# Altium integrated library Texas Instruments Interface Equalizer and Redriver.IntLib: 53 symbols (part 1 of 4)
Pins are listed as number, name and electrical type; pins without a type are passive.

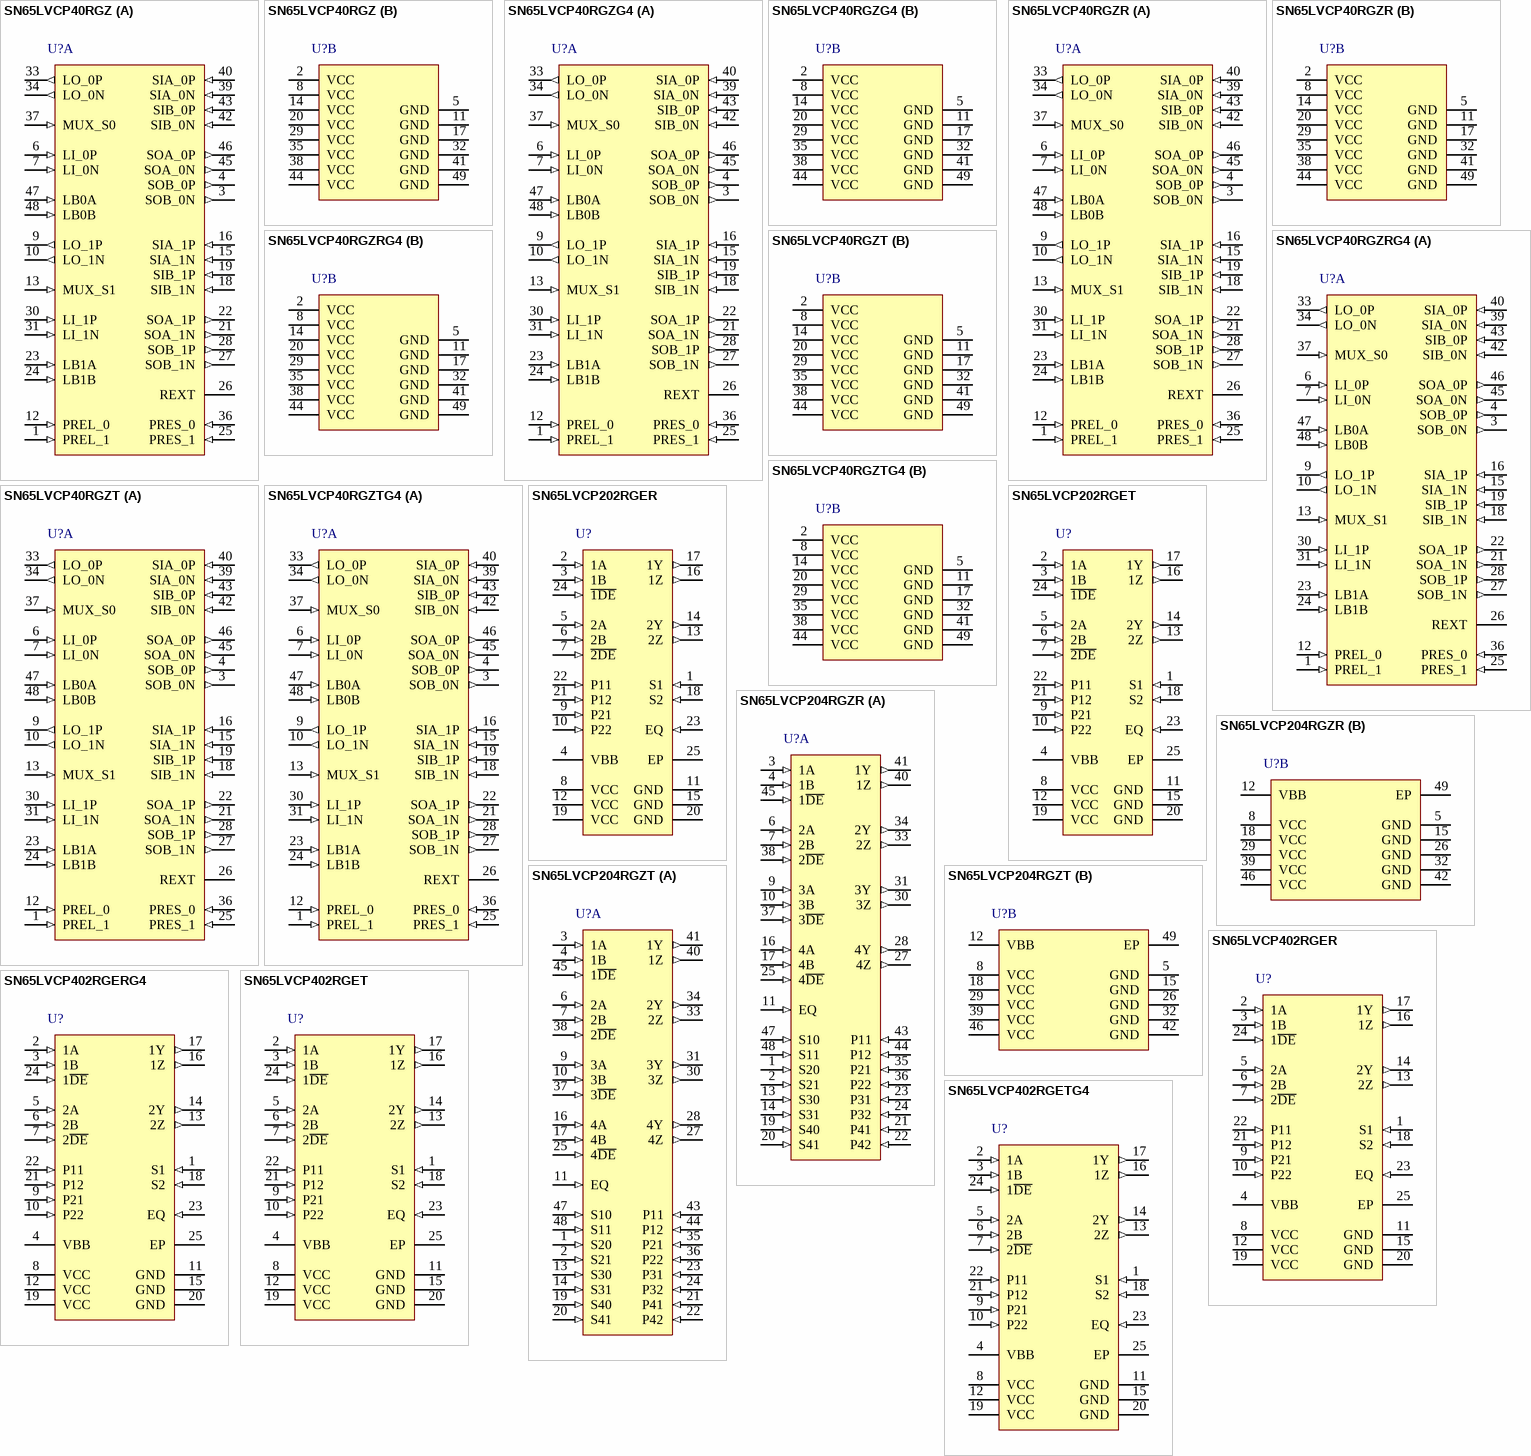
[diagram p0: symbols SN65LVCP40RGZ to SN65LVCP402RGETG4]

## SN65LVCP40RGZ
designator U?
DC to 4 Gbps Dual 1:2 Multiplexer / Repeater / Equalizer, -40 to 85 degC, 48-Pin VQFN (RGZ), Green (RoHS & no Sb/Br); PartNumber: SN65LVCP40RGZ; Manufacturer: Texas Instruments; ICC(Max)(mA): 300; IN SigCon: EQ; OUT SigCon: Pre-E; ESD HBM(kV): 2; Function: SerDes; DatasheetVersion: SLLS623D; PackageVersion: revF, Jun-2011; PackageReference: RGZ48-4100X4100TP; PackageDescription: 48-Pin Plastic Quad Flatpack No-Lead, 7 x 7 mm Body, 0.5 mm Pitch; Mounting Technology: Surface Mount; Eco-Plan: Green (RoHS & no Sb/Br); Code_JEDEC: MO-220; ComponentLink1Description: Datasheet; ComponentLink1URL: http://www.ti.com/general/docs/lit/getliterature.tsp?genericPartNumber=SN65LVCP40&fileType=pdf; ComponentLink2Description: Package Specification; ComponentLink2URL: http://www.ti.com/lit/ml/mpqf123e/mpqf123e.pdf
footprint RGZ48-4100X4100TP (QFN, 48-Leads, Body 7x7mm, Pitch 0.5mm, Thermal Pad 5.15x5.15mm, TI Recommended)
part A pins: 1 PREL_1 (in) "Output preemphasis control, line side port_0 and port_1. Has internal pull-up. See Preemphasis Controls PREL_0, PREL_1, PRES_0 and PRES for function definition.", 3 SOB_0N (out) "Differential output, mux_0 switch_B_side", 4 SOB_0P (out) "Differential output, mux_0 switch_B_side", 6 LI_0P (in) "Differential input, port_0 line side", 7 LI_0N (in) "Differential input, port_0 line side", 9 LO_1P (out) "Differential output, port_1 line side", 10 LO_1N (out) "Differential output, port_1 line side", 12 PREL_0 (in) "Output preemphasis control, line side port_0 and port_1. Has internal pull-up. See Preemphasis Controls PREL_0, PREL_1, PRES_0 and PRES for function definition.", 13 MUX_S1 (in) "Port A and B multiplex control of mux_0 and mux_1. See Multiplex Controls MUX_S0 and MUX_S1 for function definition.", 15 SIA_1N (in) "Differential input, mux_1 switch_A_side", 16 SIA_1P (in) "Differential input, mux_1 switch_A_side", 18 SIB_1N (in) "Differential input, mux_1 switch_B_side", 19 SIB_1P (in) "Differential input, mux_1 switch_B_side", 21 SOA_1N (out) "Differential output, mux_1 switch_A_side", 22 SOA_1P (out) "Differential output, mux_1 switch_A_side", 23 LB1A (in) "Loopback control for mux_1 switch side. See Loopback Controls LB0A, LB0B, LB1A and LB1B for function definition.", 24 LB1B (in) "Loopback control for mux_1 switch side. See Loopback Controls LB0A, LB0B, LB1A and LB1B for function definition.", 25 PRES_1 (in) "Output preemphasis control, switch side port_0 and port_1. See Preemphasis Controls PREL_0, PREL_1, PRES_0 and PRES for function definition.", 26 REXT "No connect. This pin is unused and can be left open or tied to GND with any resistor.", 27 SOB_1N (out) "Differential output, mux_1 switch_B_side", 28 SOB_1P (out) "Differential output, mux_1 switch_B_side", 30 LI_1P (in) "Differential input, port_1 line side", 31 LI_1N (in) "Differential input, port_1 line side", 33 LO_0P (out) "Differential output, port_0 line side", 34 LO_0N (out) "Differential output, port_0 line side", 36 PRES_0 (in) "Output preemphasis control, switch side port_0 and port_1. See Preemphasis Controls PREL_0, PREL_1, PRES_0 and PRES for function definition.", 37 MUX_S0 (in) "Port A and B multiplex control of mux_0 and mux_1. See Multiplex Controls MUX_S0 and MUX_S1 for function definition.", 39 SIA_0N (in) "Differential input, mux_0 switch_A_side", 40 SIA_0P (in) "Differential input, mux_0 switch_A_side", 42 SIB_0N (in) "Differential input, mux_0 switch_B_side", 43 SIB_0P (in) "Differential input, mux_0 switch_B_side", 45 SOA_0N (out) "Differential output, mux_0 switch_A_side", 46 SOA_0P (out) "Differential output, mux_0 switch_A_side", 47 LB0A (in) "Loopback control for mux_0 switch side. See Loopback Controls LB0A,LB0B, LB1A and LB1B for function definition.", 48 LB0B (in) "Loopback control for mux_0 switch side. See Loopback Controls LB0A,LB0B, LB1A and LB1B for function definition."
part B pins: 2 VCC (power) "Power supply 3.3 V +/-5%", 5 GND (power) "Power supply return", 8 VCC (power) "Power supply 3.3 V +/-5%", 11 GND (power) "Power supply return", 14 VCC (power) "Power supply 3.3 V +/-5%", 17 GND (power) "Power supply return", 20 VCC (power) "Power supply 3.3 V +/-5%", 29 VCC (power) "Power supply 3.3 V +/-5%", 32 GND (power) "Power supply return", 35 VCC (power) "Power supply 3.3 V +/-5%", 38 VCC (power) "Power supply 3.3 V +/-5%", 41 GND (power) "Power supply return", 44 VCC (power) "Power supply 3.3 V +/-5%", 49 GND (power) "The ground center pad is the metal contact at the bottom of the 48-pin package. It must be connected to the GND plane. At least 4 vias are recommended to minimize inductance and provide a solid ground. See the package (See Datasheet)"

## SN65LVCP40RGZG4
designator U?
DC to 4 Gbps Dual 1:2 Multiplexer / Repeater / Equalizer, -40 to 85 degC, 48-Pin VQFN (RGZ), Green (RoHS & no Sb/Br); PartNumber: SN65LVCP40RGZG4; Manufacturer: Texas Instruments; ICC(Max)(mA): 300; IN SigCon: EQ; OUT SigCon: Pre-E; ESD HBM(kV): 2; Function: SerDes; DatasheetVersion: SLLS623D; PackageVersion: revF, Jun-2011; PackageReference: RGZ48-4100X4100TP; PackageDescription: 48-Pin Plastic Quad Flatpack No-Lead, 7 x 7 mm Body, 0.5 mm Pitch; Mounting Technology: Surface Mount; Eco-Plan: Green (RoHS & no Sb/Br); Code_JEDEC: MO-220; ComponentLink1Description: Datasheet; ComponentLink1URL: http://www.ti.com/general/docs/lit/getliterature.tsp?genericPartNumber=SN65LVCP40&fileType=pdf; ComponentLink2Description: Package Specification; ComponentLink2URL: http://www.ti.com/lit/ml/mpqf123e/mpqf123e.pdf
footprint RGZ48-4100X4100TP (QFN, 48-Leads, Body 7x7mm, Pitch 0.5mm, Thermal Pad 5.15x5.15mm, TI Recommended)
part A pins: 1 PREL_1 (in) "Output preemphasis control, line side port_0 and port_1. Has internal pull-up. See Preemphasis Controls PREL_0, PREL_1, PRES_0 and PRES for function definition.", 3 SOB_0N (out) "Differential output, mux_0 switch_B_side", 4 SOB_0P (out) "Differential output, mux_0 switch_B_side", 6 LI_0P (in) "Differential input, port_0 line side", 7 LI_0N (in) "Differential input, port_0 line side", 9 LO_1P (out) "Differential output, port_1 line side", 10 LO_1N (out) "Differential output, port_1 line side", 12 PREL_0 (in) "Output preemphasis control, line side port_0 and port_1. Has internal pull-up. See Preemphasis Controls PREL_0, PREL_1, PRES_0 and PRES for function definition.", 13 MUX_S1 (in) "Port A and B multiplex control of mux_0 and mux_1. See Multiplex Controls MUX_S0 and MUX_S1 for function definition.", 15 SIA_1N (in) "Differential input, mux_1 switch_A_side", 16 SIA_1P (in) "Differential input, mux_1 switch_A_side", 18 SIB_1N (in) "Differential input, mux_1 switch_B_side", 19 SIB_1P (in) "Differential input, mux_1 switch_B_side", 21 SOA_1N (out) "Differential output, mux_1 switch_A_side", 22 SOA_1P (out) "Differential output, mux_1 switch_A_side", 23 LB1A (in) "Loopback control for mux_1 switch side. See Loopback Controls LB0A, LB0B, LB1A and LB1B for function definition.", 24 LB1B (in) "Loopback control for mux_1 switch side. See Loopback Controls LB0A, LB0B, LB1A and LB1B for function definition.", 25 PRES_1 (in) "Output preemphasis control, switch side port_0 and port_1. See Preemphasis Controls PREL_0, PREL_1, PRES_0 and PRES for function definition.", 26 REXT "No connect. This pin is unused and can be left open or tied to GND with any resistor.", 27 SOB_1N (out) "Differential output, mux_1 switch_B_side", 28 SOB_1P (out) "Differential output, mux_1 switch_B_side", 30 LI_1P (in) "Differential input, port_1 line side", 31 LI_1N (in) "Differential input, port_1 line side", 33 LO_0P (out) "Differential output, port_0 line side", 34 LO_0N (out) "Differential output, port_0 line side", 36 PRES_0 (in) "Output preemphasis control, switch side port_0 and port_1. See Preemphasis Controls PREL_0, PREL_1, PRES_0 and PRES for function definition.", 37 MUX_S0 (in) "Port A and B multiplex control of mux_0 and mux_1. See Multiplex Controls MUX_S0 and MUX_S1 for function definition.", 39 SIA_0N (in) "Differential input, mux_0 switch_A_side", 40 SIA_0P (in) "Differential input, mux_0 switch_A_side", 42 SIB_0N (in) "Differential input, mux_0 switch_B_side", 43 SIB_0P (in) "Differential input, mux_0 switch_B_side", 45 SOA_0N (out) "Differential output, mux_0 switch_A_side", 46 SOA_0P (out) "Differential output, mux_0 switch_A_side", 47 LB0A (in) "Loopback control for mux_0 switch side. See Loopback Controls LB0A,LB0B, LB1A and LB1B for function definition.", 48 LB0B (in) "Loopback control for mux_0 switch side. See Loopback Controls LB0A,LB0B, LB1A and LB1B for function definition."
part B pins: 2 VCC (power) "Power supply 3.3 V +/-5%", 5 GND (power) "Power supply return", 8 VCC (power) "Power supply 3.3 V +/-5%", 11 GND (power) "Power supply return", 14 VCC (power) "Power supply 3.3 V +/-5%", 17 GND (power) "Power supply return", 20 VCC (power) "Power supply 3.3 V +/-5%", 29 VCC (power) "Power supply 3.3 V +/-5%", 32 GND (power) "Power supply return", 35 VCC (power) "Power supply 3.3 V +/-5%", 38 VCC (power) "Power supply 3.3 V +/-5%", 41 GND (power) "Power supply return", 44 VCC (power) "Power supply 3.3 V +/-5%", 49 GND (power) "The ground center pad is the metal contact at the bottom of the 48-pin package. It must be connected to the GND plane. At least 4 vias are recommended to minimize inductance and provide a solid ground. See the package (See Datasheet)"

## SN65LVCP40RGZR
designator U?
DC to 4 Gbps Dual 1:2 Multiplexer / Repeater / Equalizer, -40 to 85 degC, 48-Pin VQFN (RGZ), Green (RoHS & no Sb/Br); PartNumber: SN65LVCP40RGZR; Manufacturer: Texas Instruments; ICC(Max)(mA): 300; IN SigCon: EQ; OUT SigCon: Pre-E; ESD HBM(kV): 2; Function: SerDes; DatasheetVersion: SLLS623D; PackageVersion: revF, Jun-2011; PackageReference: RGZ48-4100X4100TP; PackageDescription: 48-Pin Plastic Quad Flatpack No-Lead, 7 x 7 mm Body, 0.5 mm Pitch; Mounting Technology: Surface Mount; Eco-Plan: Green (RoHS & no Sb/Br); Code_JEDEC: MO-220; ComponentLink1Description: Datasheet; ComponentLink1URL: http://www.ti.com/general/docs/lit/getliterature.tsp?genericPartNumber=SN65LVCP40&fileType=pdf; ComponentLink2Description: Package Specification; ComponentLink2URL: http://www.ti.com/lit/ml/mpqf123e/mpqf123e.pdf
footprint RGZ48-4100X4100TP (QFN, 48-Leads, Body 7x7mm, Pitch 0.5mm, Thermal Pad 5.15x5.15mm, TI Recommended)
part A pins: 1 PREL_1 (in) "Output preemphasis control, line side port_0 and port_1. Has internal pull-up. See Preemphasis Controls PREL_0, PREL_1, PRES_0 and PRES for function definition.", 3 SOB_0N (out) "Differential output, mux_0 switch_B_side", 4 SOB_0P (out) "Differential output, mux_0 switch_B_side", 6 LI_0P (in) "Differential input, port_0 line side", 7 LI_0N (in) "Differential input, port_0 line side", 9 LO_1P (out) "Differential output, port_1 line side", 10 LO_1N (out) "Differential output, port_1 line side", 12 PREL_0 (in) "Output preemphasis control, line side port_0 and port_1. Has internal pull-up. See Preemphasis Controls PREL_0, PREL_1, PRES_0 and PRES for function definition.", 13 MUX_S1 (in) "Port A and B multiplex control of mux_0 and mux_1. See Multiplex Controls MUX_S0 and MUX_S1 for function definition.", 15 SIA_1N (in) "Differential input, mux_1 switch_A_side", 16 SIA_1P (in) "Differential input, mux_1 switch_A_side", 18 SIB_1N (in) "Differential input, mux_1 switch_B_side", 19 SIB_1P (in) "Differential input, mux_1 switch_B_side", 21 SOA_1N (out) "Differential output, mux_1 switch_A_side", 22 SOA_1P (out) "Differential output, mux_1 switch_A_side", 23 LB1A (in) "Loopback control for mux_1 switch side. See Loopback Controls LB0A, LB0B, LB1A and LB1B for function definition.", 24 LB1B (in) "Loopback control for mux_1 switch side. See Loopback Controls LB0A, LB0B, LB1A and LB1B for function definition.", 25 PRES_1 (in) "Output preemphasis control, switch side port_0 and port_1. See Preemphasis Controls PREL_0, PREL_1, PRES_0 and PRES for function definition.", 26 REXT "No connect. This pin is unused and can be left open or tied to GND with any resistor.", 27 SOB_1N (out) "Differential output, mux_1 switch_B_side", 28 SOB_1P (out) "Differential output, mux_1 switch_B_side", 30 LI_1P (in) "Differential input, port_1 line side", 31 LI_1N (in) "Differential input, port_1 line side", 33 LO_0P (out) "Differential output, port_0 line side", 34 LO_0N (out) "Differential output, port_0 line side", 36 PRES_0 (in) "Output preemphasis control, switch side port_0 and port_1. See Preemphasis Controls PREL_0, PREL_1, PRES_0 and PRES for function definition.", 37 MUX_S0 (in) "Port A and B multiplex control of mux_0 and mux_1. See Multiplex Controls MUX_S0 and MUX_S1 for function definition.", 39 SIA_0N (in) "Differential input, mux_0 switch_A_side", 40 SIA_0P (in) "Differential input, mux_0 switch_A_side", 42 SIB_0N (in) "Differential input, mux_0 switch_B_side", 43 SIB_0P (in) "Differential input, mux_0 switch_B_side", 45 SOA_0N (out) "Differential output, mux_0 switch_A_side", 46 SOA_0P (out) "Differential output, mux_0 switch_A_side", 47 LB0A (in) "Loopback control for mux_0 switch side. See Loopback Controls LB0A,LB0B, LB1A and LB1B for function definition.", 48 LB0B (in) "Loopback control for mux_0 switch side. See Loopback Controls LB0A,LB0B, LB1A and LB1B for function definition."
part B pins: 2 VCC (power) "Power supply 3.3 V +/-5%", 5 GND (power) "Power supply return", 8 VCC (power) "Power supply 3.3 V +/-5%", 11 GND (power) "Power supply return", 14 VCC (power) "Power supply 3.3 V +/-5%", 17 GND (power) "Power supply return", 20 VCC (power) "Power supply 3.3 V +/-5%", 29 VCC (power) "Power supply 3.3 V +/-5%", 32 GND (power) "Power supply return", 35 VCC (power) "Power supply 3.3 V +/-5%", 38 VCC (power) "Power supply 3.3 V +/-5%", 41 GND (power) "Power supply return", 44 VCC (power) "Power supply 3.3 V +/-5%", 49 GND (power) "The ground center pad is the metal contact at the bottom of the 48-pin package. It must be connected to the GND plane. At least 4 vias are recommended to minimize inductance and provide a solid ground. See the package (See Datasheet)"

## SN65LVCP40RGZRG4
designator U?
DC to 4 Gbps Dual 1:2 Multiplexer / Repeater / Equalizer, -40 to 85 degC, 48-Pin VQFN (RGZ), Green (RoHS & no Sb/Br); PartNumber: SN65LVCP40RGZRG4; Manufacturer: Texas Instruments; ICC(Max)(mA): 300; IN SigCon: EQ; OUT SigCon: Pre-E; ESD HBM(kV): 2; Function: SerDes; DatasheetVersion: SLLS623D; PackageVersion: revF, Jun-2011; PackageReference: RGZ48-4100X4100TP; PackageDescription: 48-Pin Plastic Quad Flatpack No-Lead, 7 x 7 mm Body, 0.5 mm Pitch; Mounting Technology: Surface Mount; Eco-Plan: Green (RoHS & no Sb/Br); Code_JEDEC: MO-220; ComponentLink1Description: Datasheet; ComponentLink1URL: http://www.ti.com/general/docs/lit/getliterature.tsp?genericPartNumber=SN65LVCP40&fileType=pdf; ComponentLink2Description: Package Specification; ComponentLink2URL: http://www.ti.com/lit/ml/mpqf123e/mpqf123e.pdf
footprint RGZ48-4100X4100TP (QFN, 48-Leads, Body 7x7mm, Pitch 0.5mm, Thermal Pad 5.15x5.15mm, TI Recommended)
part A pins: 1 PREL_1 (in) "Output preemphasis control, line side port_0 and port_1. Has internal pull-up. See Preemphasis Controls PREL_0, PREL_1, PRES_0 and PRES for function definition.", 3 SOB_0N (out) "Differential output, mux_0 switch_B_side", 4 SOB_0P (out) "Differential output, mux_0 switch_B_side", 6 LI_0P (in) "Differential input, port_0 line side", 7 LI_0N (in) "Differential input, port_0 line side", 9 LO_1P (out) "Differential output, port_1 line side", 10 LO_1N (out) "Differential output, port_1 line side", 12 PREL_0 (in) "Output preemphasis control, line side port_0 and port_1. Has internal pull-up. See Preemphasis Controls PREL_0, PREL_1, PRES_0 and PRES for function definition.", 13 MUX_S1 (in) "Port A and B multiplex control of mux_0 and mux_1. See Multiplex Controls MUX_S0 and MUX_S1 for function definition.", 15 SIA_1N (in) "Differential input, mux_1 switch_A_side", 16 SIA_1P (in) "Differential input, mux_1 switch_A_side", 18 SIB_1N (in) "Differential input, mux_1 switch_B_side", 19 SIB_1P (in) "Differential input, mux_1 switch_B_side", 21 SOA_1N (out) "Differential output, mux_1 switch_A_side", 22 SOA_1P (out) "Differential output, mux_1 switch_A_side", 23 LB1A (in) "Loopback control for mux_1 switch side. See Loopback Controls LB0A, LB0B, LB1A and LB1B for function definition.", 24 LB1B (in) "Loopback control for mux_1 switch side. See Loopback Controls LB0A, LB0B, LB1A and LB1B for function definition.", 25 PRES_1 (in) "Output preemphasis control, switch side port_0 and port_1. See Preemphasis Controls PREL_0, PREL_1, PRES_0 and PRES for function definition.", 26 REXT "No connect. This pin is unused and can be left open or tied to GND with any resistor.", 27 SOB_1N (out) "Differential output, mux_1 switch_B_side", 28 SOB_1P (out) "Differential output, mux_1 switch_B_side", 30 LI_1P (in) "Differential input, port_1 line side", 31 LI_1N (in) "Differential input, port_1 line side", 33 LO_0P (out) "Differential output, port_0 line side", 34 LO_0N (out) "Differential output, port_0 line side", 36 PRES_0 (in) "Output preemphasis control, switch side port_0 and port_1. See Preemphasis Controls PREL_0, PREL_1, PRES_0 and PRES for function definition.", 37 MUX_S0 (in) "Port A and B multiplex control of mux_0 and mux_1. See Multiplex Controls MUX_S0 and MUX_S1 for function definition.", 39 SIA_0N (in) "Differential input, mux_0 switch_A_side", 40 SIA_0P (in) "Differential input, mux_0 switch_A_side", 42 SIB_0N (in) "Differential input, mux_0 switch_B_side", 43 SIB_0P (in) "Differential input, mux_0 switch_B_side", 45 SOA_0N (out) "Differential output, mux_0 switch_A_side", 46 SOA_0P (out) "Differential output, mux_0 switch_A_side", 47 LB0A (in) "Loopback control for mux_0 switch side. See Loopback Controls LB0A,LB0B, LB1A and LB1B for function definition.", 48 LB0B (in) "Loopback control for mux_0 switch side. See Loopback Controls LB0A,LB0B, LB1A and LB1B for function definition."
part B pins: 2 VCC (power) "Power supply 3.3 V +/-5%", 5 GND (power) "Power supply return", 8 VCC (power) "Power supply 3.3 V +/-5%", 11 GND (power) "Power supply return", 14 VCC (power) "Power supply 3.3 V +/-5%", 17 GND (power) "Power supply return", 20 VCC (power) "Power supply 3.3 V +/-5%", 29 VCC (power) "Power supply 3.3 V +/-5%", 32 GND (power) "Power supply return", 35 VCC (power) "Power supply 3.3 V +/-5%", 38 VCC (power) "Power supply 3.3 V +/-5%", 41 GND (power) "Power supply return", 44 VCC (power) "Power supply 3.3 V +/-5%", 49 GND (power) "The ground center pad is the metal contact at the bottom of the 48-pin package. It must be connected to the GND plane. At least 4 vias are recommended to minimize inductance and provide a solid ground. See the package (See Datasheet)"

## SN65LVCP40RGZT
designator U?
DC to 4 Gbps Dual 1:2 Multiplexer / Repeater / Equalizer, -40 to 85 degC, 48-Pin VQFN (RGZ), Green (RoHS & no Sb/Br); PartNumber: SN65LVCP40RGZT; Manufacturer: Texas Instruments; ICC(Max)(mA): 300; IN SigCon: EQ; OUT SigCon: Pre-E; ESD HBM(kV): 2; Function: SerDes; DatasheetVersion: SLLS623D; PackageVersion: revF, Jun-2011; PackageReference: RGZ48-4100X4100TP; PackageDescription: 48-Pin Plastic Quad Flatpack No-Lead, 7 x 7 mm Body, 0.5 mm Pitch; Mounting Technology: Surface Mount; Eco-Plan: Green (RoHS & no Sb/Br); Code_JEDEC: MO-220; ComponentLink1Description: Datasheet; ComponentLink1URL: http://www.ti.com/general/docs/lit/getliterature.tsp?genericPartNumber=SN65LVCP40&fileType=pdf; ComponentLink2Description: Package Specification; ComponentLink2URL: http://www.ti.com/lit/ml/mpqf123e/mpqf123e.pdf
footprint RGZ48-4100X4100TP (QFN, 48-Leads, Body 7x7mm, Pitch 0.5mm, Thermal Pad 5.15x5.15mm, TI Recommended)
part A pins: 1 PREL_1 (in) "Output preemphasis control, line side port_0 and port_1. Has internal pull-up. See Preemphasis Controls PREL_0, PREL_1, PRES_0 and PRES for function definition.", 3 SOB_0N (out) "Differential output, mux_0 switch_B_side", 4 SOB_0P (out) "Differential output, mux_0 switch_B_side", 6 LI_0P (in) "Differential input, port_0 line side", 7 LI_0N (in) "Differential input, port_0 line side", 9 LO_1P (out) "Differential output, port_1 line side", 10 LO_1N (out) "Differential output, port_1 line side", 12 PREL_0 (in) "Output preemphasis control, line side port_0 and port_1. Has internal pull-up. See Preemphasis Controls PREL_0, PREL_1, PRES_0 and PRES for function definition.", 13 MUX_S1 (in) "Port A and B multiplex control of mux_0 and mux_1. See Multiplex Controls MUX_S0 and MUX_S1 for function definition.", 15 SIA_1N (in) "Differential input, mux_1 switch_A_side", 16 SIA_1P (in) "Differential input, mux_1 switch_A_side", 18 SIB_1N (in) "Differential input, mux_1 switch_B_side", 19 SIB_1P (in) "Differential input, mux_1 switch_B_side", 21 SOA_1N (out) "Differential output, mux_1 switch_A_side", 22 SOA_1P (out) "Differential output, mux_1 switch_A_side", 23 LB1A (in) "Loopback control for mux_1 switch side. See Loopback Controls LB0A, LB0B, LB1A and LB1B for function definition.", 24 LB1B (in) "Loopback control for mux_1 switch side. See Loopback Controls LB0A, LB0B, LB1A and LB1B for function definition.", 25 PRES_1 (in) "Output preemphasis control, switch side port_0 and port_1. See Preemphasis Controls PREL_0, PREL_1, PRES_0 and PRES for function definition.", 26 REXT "No connect. This pin is unused and can be left open or tied to GND with any resistor.", 27 SOB_1N (out) "Differential output, mux_1 switch_B_side", 28 SOB_1P (out) "Differential output, mux_1 switch_B_side", 30 LI_1P (in) "Differential input, port_1 line side", 31 LI_1N (in) "Differential input, port_1 line side", 33 LO_0P (out) "Differential output, port_0 line side", 34 LO_0N (out) "Differential output, port_0 line side", 36 PRES_0 (in) "Output preemphasis control, switch side port_0 and port_1. See Preemphasis Controls PREL_0, PREL_1, PRES_0 and PRES for function definition.", 37 MUX_S0 (in) "Port A and B multiplex control of mux_0 and mux_1. See Multiplex Controls MUX_S0 and MUX_S1 for function definition.", 39 SIA_0N (in) "Differential input, mux_0 switch_A_side", 40 SIA_0P (in) "Differential input, mux_0 switch_A_side", 42 SIB_0N (in) "Differential input, mux_0 switch_B_side", 43 SIB_0P (in) "Differential input, mux_0 switch_B_side", 45 SOA_0N (out) "Differential output, mux_0 switch_A_side", 46 SOA_0P (out) "Differential output, mux_0 switch_A_side", 47 LB0A (in) "Loopback control for mux_0 switch side. See Loopback Controls LB0A,LB0B, LB1A and LB1B for function definition.", 48 LB0B (in) "Loopback control for mux_0 switch side. See Loopback Controls LB0A,LB0B, LB1A and LB1B for function definition."
part B pins: 2 VCC (power) "Power supply 3.3 V +/-5%", 5 GND (power) "Power supply return", 8 VCC (power) "Power supply 3.3 V +/-5%", 11 GND (power) "Power supply return", 14 VCC (power) "Power supply 3.3 V +/-5%", 17 GND (power) "Power supply return", 20 VCC (power) "Power supply 3.3 V +/-5%", 29 VCC (power) "Power supply 3.3 V +/-5%", 32 GND (power) "Power supply return", 35 VCC (power) "Power supply 3.3 V +/-5%", 38 VCC (power) "Power supply 3.3 V +/-5%", 41 GND (power) "Power supply return", 44 VCC (power) "Power supply 3.3 V +/-5%", 49 GND (power) "The ground center pad is the metal contact at the bottom of the 48-pin package. It must be connected to the GND plane. At least 4 vias are recommended to minimize inductance and provide a solid ground. See the package (See Datasheet)"

## SN65LVCP40RGZTG4
designator U?
DC to 4 Gbps Dual 1:2 Multiplexer / Repeater / Equalizer, -40 to 85 degC, 48-Pin VQFN (RGZ), Green (RoHS & no Sb/Br); PartNumber: SN65LVCP40RGZTG4; Manufacturer: Texas Instruments; ICC(Max)(mA): 300; IN SigCon: EQ; OUT SigCon: Pre-E; ESD HBM(kV): 2; Function: SerDes; DatasheetVersion: SLLS623D; PackageVersion: revF, Jun-2011; PackageReference: RGZ48-4100X4100TP; PackageDescription: 48-Pin Plastic Quad Flatpack No-Lead, 7 x 7 mm Body, 0.5 mm Pitch; Mounting Technology: Surface Mount; Eco-Plan: Green (RoHS & no Sb/Br); Code_JEDEC: MO-220; ComponentLink1Description: Datasheet; ComponentLink1URL: http://www.ti.com/general/docs/lit/getliterature.tsp?genericPartNumber=SN65LVCP40&fileType=pdf; ComponentLink2Description: Package Specification; ComponentLink2URL: http://www.ti.com/lit/ml/mpqf123e/mpqf123e.pdf
footprint RGZ48-4100X4100TP (QFN, 48-Leads, Body 7x7mm, Pitch 0.5mm, Thermal Pad 5.15x5.15mm, TI Recommended)
part A pins: 1 PREL_1 (in) "Output preemphasis control, line side port_0 and port_1. Has internal pull-up. See Preemphasis Controls PREL_0, PREL_1, PRES_0 and PRES for function definition.", 3 SOB_0N (out) "Differential output, mux_0 switch_B_side", 4 SOB_0P (out) "Differential output, mux_0 switch_B_side", 6 LI_0P (in) "Differential input, port_0 line side", 7 LI_0N (in) "Differential input, port_0 line side", 9 LO_1P (out) "Differential output, port_1 line side", 10 LO_1N (out) "Differential output, port_1 line side", 12 PREL_0 (in) "Output preemphasis control, line side port_0 and port_1. Has internal pull-up. See Preemphasis Controls PREL_0, PREL_1, PRES_0 and PRES for function definition.", 13 MUX_S1 (in) "Port A and B multiplex control of mux_0 and mux_1. See Multiplex Controls MUX_S0 and MUX_S1 for function definition.", 15 SIA_1N (in) "Differential input, mux_1 switch_A_side", 16 SIA_1P (in) "Differential input, mux_1 switch_A_side", 18 SIB_1N (in) "Differential input, mux_1 switch_B_side", 19 SIB_1P (in) "Differential input, mux_1 switch_B_side", 21 SOA_1N (out) "Differential output, mux_1 switch_A_side", 22 SOA_1P (out) "Differential output, mux_1 switch_A_side", 23 LB1A (in) "Loopback control for mux_1 switch side. See Loopback Controls LB0A, LB0B, LB1A and LB1B for function definition.", 24 LB1B (in) "Loopback control for mux_1 switch side. See Loopback Controls LB0A, LB0B, LB1A and LB1B for function definition.", 25 PRES_1 (in) "Output preemphasis control, switch side port_0 and port_1. See Preemphasis Controls PREL_0, PREL_1, PRES_0 and PRES for function definition.", 26 REXT "No connect. This pin is unused and can be left open or tied to GND with any resistor.", 27 SOB_1N (out) "Differential output, mux_1 switch_B_side", 28 SOB_1P (out) "Differential output, mux_1 switch_B_side", 30 LI_1P (in) "Differential input, port_1 line side", 31 LI_1N (in) "Differential input, port_1 line side", 33 LO_0P (out) "Differential output, port_0 line side", 34 LO_0N (out) "Differential output, port_0 line side", 36 PRES_0 (in) "Output preemphasis control, switch side port_0 and port_1. See Preemphasis Controls PREL_0, PREL_1, PRES_0 and PRES for function definition.", 37 MUX_S0 (in) "Port A and B multiplex control of mux_0 and mux_1. See Multiplex Controls MUX_S0 and MUX_S1 for function definition.", 39 SIA_0N (in) "Differential input, mux_0 switch_A_side", 40 SIA_0P (in) "Differential input, mux_0 switch_A_side", 42 SIB_0N (in) "Differential input, mux_0 switch_B_side", 43 SIB_0P (in) "Differential input, mux_0 switch_B_side", 45 SOA_0N (out) "Differential output, mux_0 switch_A_side", 46 SOA_0P (out) "Differential output, mux_0 switch_A_side", 47 LB0A (in) "Loopback control for mux_0 switch side. See Loopback Controls LB0A,LB0B, LB1A and LB1B for function definition.", 48 LB0B (in) "Loopback control for mux_0 switch side. See Loopback Controls LB0A,LB0B, LB1A and LB1B for function definition."
part B pins: 2 VCC (power) "Power supply 3.3 V +/-5%", 5 GND (power) "Power supply return", 8 VCC (power) "Power supply 3.3 V +/-5%", 11 GND (power) "Power supply return", 14 VCC (power) "Power supply 3.3 V +/-5%", 17 GND (power) "Power supply return", 20 VCC (power) "Power supply 3.3 V +/-5%", 29 VCC (power) "Power supply 3.3 V +/-5%", 32 GND (power) "Power supply return", 35 VCC (power) "Power supply 3.3 V +/-5%", 38 VCC (power) "Power supply 3.3 V +/-5%", 41 GND (power) "Power supply return", 44 VCC (power) "Power supply 3.3 V +/-5%", 49 GND (power) "The ground center pad is the metal contact at the bottom of the 48-pin package. It must be connected to the GND plane. At least 4 vias are recommended to minimize inductance and provide a solid ground. See the package (See Datasheet)"

## SN65LVCP202RGER
designator U?
2.5Gbps 2x2 Crosspoint Switch, -40 to 85 degC, 24-Pin VQFN (RGE), Green (RoHS & no Sb/Br); PartNumber: SN65LVCP202RGER; Manufacturer: Texas Instruments; ICC(Max)(mA): 115; IN SigCon: EQ; OUT SigCon: Pre-E; ESD HBM(kV): 4; DatasheetVersion: SLLS914; PackageVersion: revG, Jul-2011; PackageReference: RGE24-2450X2450TP; PackageDescription: 24-Pin Plastic Quad Flatpack No-Lead, 4 x 4 mm Body, 0.5 mm Pitch; Mounting Technology: Surface Mount; Eco-Plan: Green (RoHS & no Sb/Br); Function: Crosspoint; Code_JEDEC: MO-220; ComponentLink1Description: Datasheet; ComponentLink1URL: http://www.ti.com/general/docs/lit/getliterature.tsp?genericPartNumber=SN65LVCP202&fileType=pdf; ComponentLink2Description: Package Specification; ComponentLink2URL: http://www.ti.com/litv/pdf/mpqf124f
footprint RGE24-2450X2450TP (QFN, 24-Leads, Body 4x4mm, Pitch 0.5mm, Thermal Pad 2.45x2.45mm, TI Recommended)
pins: 1 S1 (in) "Switching selection; LVTTL", 2 1A (in) "Line-side differential inputs, CML compatible", 3 1B (in) "Line-side differential inputs, CML compatible", 4 VBB (power) "Receiver input biasing voltage", 5 2A (in) "Line-side differential inputs, CML compatible", 6 2B (in) "Line-side differential inputs, CML compatible", 7 ~{2DE} (in) ""Data enable; active-low; LVTTL; when not enabled, the output is in high-impedance state for power savings.", 8 VCC (power) "Power supply, 3.3 V +/-5%", 9 P21 (in) "Output preemphasis control; LVTTL", 10 P22 (in) "Output preemphasis control; LVTTL", 11 GND (power) "Ground", 12 VCC (power) "Power supply, 3.3 V +/-5%", 13 2Z (out) "Switch-side differential outputs, VML", 14 2Y (out) "Switch-side differential outputs, VML", 15 GND (power) "Ground", 16 1Z (out) "Switch-side differential outputs, VML", 17 1Y (out) "Switch-side differential outputs, VML", 18 S2 (in) "Switching selection; LVTTL", 19 VCC (power) "Power supply, 3.3 V +/-5%", 20 GND (power) "Ground", 21 P12 (in) "Output preemphasis control; LVTTL", 22 P11 (in) "Output preemphasis control; LVTTL", 23 EQ (in) ""EQ = 1 (default) is for the 5-dB setting; EQ = 0 is for the 12-dB setting.", 24 ~{1DE} (in) ""Data enable; active-low; LVTTL; when not enabled, the output is in high-impedance state for power savings.", 25 EP (power) ""The ground center pad of the package must be connected to GND plane with thermal vias."

## SN65LVCP202RGET
designator U?
2.5Gbps 2 x 2 Crosspoint Switch, -40 to 85 degC, 24-Pin VQFN (RGE), Green (RoHS & no Sb/Br); PartNumber: SN65LVCP202RGET; Manufacturer: Texas Instruments; ICC(Max)(mA): 115; IN SigCon: EQ; OUT SigCon: Pre-E; ESD HBM(kV): 4; DatasheetVersion: SLLS914; PackageVersion: revG, Jul-2011; PackageReference: RGE24-2450X2450TP; PackageDescription: 24-Pin Plastic Quad Flatpack No-Lead, 4 x 4 mm Body, 0.5 mm Pitch; Mounting Technology: Surface Mount; Eco-Plan: Green (RoHS & no Sb/Br); Function: Crosspoint; Code_JEDEC: MO-220; ComponentLink1Description: Datasheet; ComponentLink1URL: http://www.ti.com/general/docs/lit/getliterature.tsp?genericPartNumber=SN65LVCP202&fileType=pdf; ComponentLink2Description: Package Specification; ComponentLink2URL: http://www.ti.com/litv/pdf/mpqf124f
footprint RGE24-2450X2450TP (QFN, 24-Leads, Body 4x4mm, Pitch 0.5mm, Thermal Pad 2.45x2.45mm, TI Recommended)
pins: 1 S1 (in) "Switching selection; LVTTL", 2 1A (in) "Line-side differential inputs, CML compatible", 3 1B (in) "Line-side differential inputs, CML compatible", 4 VBB (power) "Receiver input biasing voltage", 5 2A (in) "Line-side differential inputs, CML compatible", 6 2B (in) "Line-side differential inputs, CML compatible", 7 ~{2DE} (in) ""Data enable; active-low; LVTTL; when not enabled, the output is in high-impedance state for power savings.", 8 VCC (power) "Power supply, 3.3 V +/-5%", 9 P21 (in) "Output preemphasis control; LVTTL", 10 P22 (in) "Output preemphasis control; LVTTL", 11 GND (power) "Ground", 12 VCC (power) "Power supply, 3.3 V +/-5%", 13 2Z (out) "Switch-side differential outputs, VML", 14 2Y (out) "Switch-side differential outputs, VML", 15 GND (power) "Ground", 16 1Z (out) "Switch-side differential outputs, VML", 17 1Y (out) "Switch-side differential outputs, VML", 18 S2 (in) "Switching selection; LVTTL", 19 VCC (power) "Power supply, 3.3 V +/-5%", 20 GND (power) "Ground", 21 P12 (in) "Output preemphasis control; LVTTL", 22 P11 (in) "Output preemphasis control; LVTTL", 23 EQ (in) ""EQ = 1 (default) is for the 5-dB setting; EQ = 0 is for the 12-dB setting.", 24 ~{1DE} (in) ""Data enable; active-low; LVTTL; when not enabled, the output is in high-impedance state for power savings.", 25 EP (power) ""The ground center pad of the package must be connected to GND plane with thermal vias."

## SN65LVCP204RGZR
designator U?
2.5Gbps 4 x 4 Crosspoint Switch, 4 TX / 4 RX, 3.3V, -40 to 85 degC, 48-Pin VQFN (RGZ), Green (RoHS & no Sb/Br); PartNumber: SN65LVCP204RGZR; Manufacturer: Texas Instruments; ICC(Max)(mA): 220; IN SigCon: EQ; OUT SigCon: Pre-E; ESD HBM(kV): 3; DatasheetVersion: SLLS913; PackageVersion: revF, Jun-2011; PackageReference: RGZ48-4100X4100TP; PackageDescription: 48-Pin Plastic Quad Flatpack No-Lead, 7 x 7 mm Body, 0.5 mm Pitch; Mounting Technology: Surface Mount; Eco-Plan: Green (RoHS & no Sb/Br); Function: Crosspoint; Code_JEDEC: MO-220; ComponentLink1Description: Datasheet; ComponentLink1URL: http://www.ti.com/general/docs/lit/getliterature.tsp?genericPartNumber=SN65LVCP204&fileType=pdf; ComponentLink2Description: Package Specification; ComponentLink2URL: http://www.ti.com/lit/ml/mpqf123e/mpqf123e.pdf
footprint RGZ48-4100X4100TP (QFN, 48-Leads, Body 7x7mm, Pitch 0.5mm, Thermal Pad 5.15x5.15mm, TI Recommended)
part A pins: 1 S20 (in) "Switching selection; LVTTL", 2 S21 (in) "Switching selection; LVTTL", 3 1A (in) "Line-side differential inputs, CML compatible", 4 1B (in) "Line-side differential inputs, CML compatible", 6 2A (in) "Line-side differential inputs, CML compatible", 7 2B (in) "Line-side differential inputs, CML compatible", 9 3A (in) "Line-side differential inputs, CML compatible", 10 3B (in) "Line-side differential inputs, CML compatible", 11 EQ (in) "EQ = 1 (default) is for the 5-dB setting, EQ = 0 is for the 12-dB setting", 13 S30 (in) "Switching selection; LVTTL", 14 S31 (in) "Switching selection; LVTTL", 16 4A (in) "Line-side differential inputs, CML compatible", 17 4B (in) "Line-side differential inputs, CML compatible", 19 S40 (in) "Switching selection; LVTTL", 20 S41 (in) "Switching selection; LVTTL", 21 P41 (in) "Output preemphasis control; LVTTL", 22 P42 (in) "Output preemphasis control; LVTTL", 23 P31 (in) "Output preemphasis control; LVTTL", 24 P32 (in) "Output preemphasis control; LVTTL", 25 4~{DE} (in) "Data enable; active low; LVTTL; when not enabled, the ouput is in the high-impedance state for power savings.", 27 4Z (out) "Switch-side differential outputs, VML", 28 4Y (out) "Switch-side differential outputs, VML", 30 3Z (out) "Switch-side differential outputs, VML", 31 3Y (out) "Switch-side differential outputs, VML", 33 2Z (out) "Switch-side differential outputs, VML", 34 2Y (out) "Switch-side differential outputs, VML", 35 P21 (in) "Output preemphasis control; LVTTL", 36 P22 (in) "Output preemphasis control; LVTTL", 37 3~{DE} (in) "Data enable; active low; LVTTL; when not enabled, the ouput is in the high-impedance state for power savings.", 38 2~{DE} (in) "Data enable; active low; LVTTL; when not enabled, the ouput is in the high-impedance state for power savings.", 40 1Z (out) "Switch-side differential outputs, VML", 41 1Y (out) "Switch-side differential outputs, VML", 43 P11 (in) "Output preemphasis control; LVTTL", 44 P12 (in) "Output preemphasis control; LVTTL", 45 1~{DE} (in) "Data enable; active low; LVTTL; when not enabled, the ouput is in the high-impedance state for power savings.", 47 S10 (in) "Switching selection; LVTTL", 48 S11 (in) "Switching selection; LVTTL"
part B pins: 5 GND (power) "Ground", 8 VCC (power) "Power supply 3.3 V +/-5%", 12 VBB (power) "Receiver input biasing voltage", 15 GND (power) "Ground", 18 VCC (power) "Power supply 3.3 V +/-5%", 26 GND (power) "Ground", 29 VCC (power) "Power supply 3.3 V +/-5%", 32 GND (power) "Ground", 39 VCC (power) "Power supply 3.3 V +/-5%", 42 GND (power) "Ground", 46 VCC (power) "Power supply 3.3 V +/-5%", 49 EP (power) "The ground center pad of the package must be connected to GND plane."

## SN65LVCP204RGZT
designator U?
2.5Gbps 4x4 Crosspoint Switch, -40 to 85 degC, 48-Pin VQFN (RGZ), Green (RoHS & no Sb/Br); PartNumber: SN65LVCP204RGZT; Manufacturer: Texas Instruments; ICC(Max)(mA): 220; IN SigCon: EQ; OUT SigCon: Pre-E; ESD HBM(kV): 3; DatasheetVersion: SLLS913; PackageVersion: revF, Jun-2011; PackageReference: RGZ48-4100X4100TP; PackageDescription: 48-Pin Plastic Quad Flatpack No-Lead, 7 x 7 mm Body, 0.5 mm Pitch; Mounting Technology: Surface Mount; Eco-Plan: Green (RoHS & no Sb/Br); Function: Crosspoint; Code_JEDEC: MO-220; ComponentLink1Description: Datasheet; ComponentLink1URL: http://www.ti.com/general/docs/lit/getliterature.tsp?genericPartNumber=SN65LVCP204&fileType=pdf; ComponentLink2Description: Package Specification; ComponentLink2URL: http://www.ti.com/lit/ml/mpqf123e/mpqf123e.pdf
footprint RGZ48-4100X4100TP (QFN, 48-Leads, Body 7x7mm, Pitch 0.5mm, Thermal Pad 5.15x5.15mm, TI Recommended)
part A pins: 1 S20 (in) "Switching selection; LVTTL", 2 S21 (in) "Switching selection; LVTTL", 3 1A (in) "Line-side differential inputs, CML compatible", 4 1B (in) "Line-side differential inputs, CML compatible", 6 2A (in) "Line-side differential inputs, CML compatible", 7 2B (in) "Line-side differential inputs, CML compatible", 9 3A (in) "Line-side differential inputs, CML compatible", 10 3B (in) "Line-side differential inputs, CML compatible", 11 EQ (in) "EQ = 1 (default) is for the 5-dB setting, EQ = 0 is for the 12-dB setting", 13 S30 (in) "Switching selection; LVTTL", 14 S31 (in) "Switching selection; LVTTL", 16 4A (in) "Line-side differential inputs, CML compatible", 17 4B (in) "Line-side differential inputs, CML compatible", 19 S40 (in) "Switching selection; LVTTL", 20 S41 (in) "Switching selection; LVTTL", 21 P41 (in) "Output preemphasis control; LVTTL", 22 P42 (in) "Output preemphasis control; LVTTL", 23 P31 (in) "Output preemphasis control; LVTTL", 24 P32 (in) "Output preemphasis control; LVTTL", 25 4~{DE} (in) "Data enable; active low; LVTTL; when not enabled, the ouput is in the high-impedance state for power savings.", 27 4Z (out) "Switch-side differential outputs, VML", 28 4Y (out) "Switch-side differential outputs, VML", 30 3Z (out) "Switch-side differential outputs, VML", 31 3Y (out) "Switch-side differential outputs, VML", 33 2Z (out) "Switch-side differential outputs, VML", 34 2Y (out) "Switch-side differential outputs, VML", 35 P21 (in) "Output preemphasis control; LVTTL", 36 P22 (in) "Output preemphasis control; LVTTL", 37 3~{DE} (in) "Data enable; active low; LVTTL; when not enabled, the ouput is in the high-impedance state for power savings.", 38 2~{DE} (in) "Data enable; active low; LVTTL; when not enabled, the ouput is in the high-impedance state for power savings.", 40 1Z (out) "Switch-side differential outputs, VML", 41 1Y (out) "Switch-side differential outputs, VML", 43 P11 (in) "Output preemphasis control; LVTTL", 44 P12 (in) "Output preemphasis control; LVTTL", 45 1~{DE} (in) "Data enable; active low; LVTTL; when not enabled, the ouput is in the high-impedance state for power savings.", 47 S10 (in) "Switching selection; LVTTL", 48 S11 (in) "Switching selection; LVTTL"
part B pins: 5 GND (power) "Ground", 8 VCC (power) "Power supply 3.3 V +/-5%", 12 VBB (power) "Receiver input biasing voltage", 15 GND (power) "Ground", 18 VCC (power) "Power supply 3.3 V +/-5%", 26 GND (power) "Ground", 29 VCC (power) "Power supply 3.3 V +/-5%", 32 GND (power) "Ground", 39 VCC (power) "Power supply 3.3 V +/-5%", 42 GND (power) "Ground", 46 VCC (power) "Power supply 3.3 V +/-5%", 49 EP (power) "The ground center pad of the package must be connected to GND plane."

## SN65LVCP402RGER
designator U?
2 x 2 Gigabit Crosspoint Switch, 2 TX / 2 RX, 3.3V, -40 to 85 degC, 24-Pin VQFN (RGE), Green (RoHS & no Sb/Br); PartNumber: SN65LVCP402RGER; Manufacturer: Texas Instruments; ICC(Max)(mA): 110; IN SigCon: EQ; OUT SigCon: Pre-E; ESD HBM(kV): 3; DatasheetVersion: SLLS699A; PackageVersion: revG, Jul-2011; PackageReference: RGE24-2450X2450TP; PackageDescription: 24-Pin Plastic Quad Flatpack No-Lead, 4 x 4 mm Body, 0.5 mm Pitch; Mounting Technology: Surface Mount; Eco-Plan: Green (RoHS & no Sb/Br); Function: Crosspoint; Code_JEDEC: MO-220; ComponentLink1Description: Datasheet; ComponentLink1URL: http://www.ti.com/general/docs/lit/getliterature.tsp?genericPartNumber=SN65LVCP402&fileType=pdf; ComponentLink2Description: Package Specification; ComponentLink2URL: http://www.ti.com/litv/pdf/mpqf124f
footprint RGE24-2450X2450TP (QFN, 24-Leads, Body 4x4mm, Pitch 0.5mm, Thermal Pad 2.45x2.45mm, TI Recommended)
pins: 1 S1 (in) "Switching Selection; LVTTL", 2 1A (in) "Line Side Differential Inputs CML compatible", 3 1B (in) "Line Side Differential Inputs CML compatible", 4 VBB (power) "Receiver input biasing voltage.For ac coupling, VBB should be left floating for optimal bias value. For dc coupling, VBB can driven to change the common mode. [see datasheet]", 5 2A (in) "Line Side Differential Inputs CML compatible", 6 2B (in) "Line Side Differential Inputs CML compatible", 7 2~{DE} (in) "Data Enable; Active Low; LVTTL;When not enabled the output is in 3-STATE mode for power savings", 8 VCC (power) "Power Supply 3.3 V +/-5%", 9 P21 (in) "Output Preemphasis Control; LVTTL", 10 P22 (in) "Output Preemphasis Control; LVTTL", 11 GND (power) "ground", 12 VCC (power) "Power Supply 3.3 V +/-5%", 13 2Z (out) "Switch Side Differential Outputs. VML", 14 2Y (out) "Switch Side Differential Outputs. VML", 15 GND (power) "ground", 16 1Z (out) "Switch Side Differential Outputs. VML", 17 1Y (out) "Switch Side Differential Outputs. VML", 18 S2 (in) "Switching Selection; LVTTL", 19 VCC (power) "Power Supply 3.3 V +/-5%", 20 GND (power) "ground", 21 P12 (in) "Output Preemphasis Control; LVTTL", 22 P11 (in) "Output Preemphasis Control; LVTTL", 23 EQ (in) "EQ=1(default) is for the 5 dB setting; EQ=0 is for the 12 dB setting", 24 1~{DE} (in) "Data Enable; Active Low; LVTTL;When not enabled the output is in 3-STATE mode for power savings", 25 EP (power) "The ground center pad of the package must be connected to  Thermal Pad Thermal Pad  GND plane with thermal vias."

## SN65LVCP402RGERG4
designator U?
2 x 2 Gigabit Crosspoint Switch, 2 TX / 2 RX, 3.3V, -40 to 85 degC, 24-Pin VQFN (RGE), Green (RoHS & no Sb/Br); PartNumber: SN65LVCP402RGERG4; Manufacturer: Texas Instruments; ICC(Max)(mA): 110; IN SigCon: EQ; OUT SigCon: Pre-E; ESD HBM(kV): 3; DatasheetVersion: SLLS699A; PackageVersion: revG, Jul-2011; PackageReference: RGE24-2450X2450TP; PackageDescription: 24-Pin Plastic Quad Flatpack No-Lead, 4 x 4 mm Body, 0.5 mm Pitch; Mounting Technology: Surface Mount; Eco-Plan: Green (RoHS & no Sb/Br); Function: Crosspoint; Code_JEDEC: MO-220; ComponentLink1Description: Datasheet; ComponentLink1URL: http://www.ti.com/general/docs/lit/getliterature.tsp?genericPartNumber=SN65LVCP402&fileType=pdf; ComponentLink2Description: Package Specification; ComponentLink2URL: http://www.ti.com/litv/pdf/mpqf124f
footprint RGE24-2450X2450TP (QFN, 24-Leads, Body 4x4mm, Pitch 0.5mm, Thermal Pad 2.45x2.45mm, TI Recommended)
pins: 1 S1 (in) "Switching Selection; LVTTL", 2 1A (in) "Line Side Differential Inputs CML compatible", 3 1B (in) "Line Side Differential Inputs CML compatible", 4 VBB (power) "Receiver input biasing voltage.For ac coupling, VBB should be left floating for optimal bias value. For dc coupling, VBB can driven to change the common mode. [see datasheet]", 5 2A (in) "Line Side Differential Inputs CML compatible", 6 2B (in) "Line Side Differential Inputs CML compatible", 7 2~{DE} (in) "Data Enable; Active Low; LVTTL;When not enabled the output is in 3-STATE mode for power savings", 8 VCC (power) "Power Supply 3.3 V +/-5%", 9 P21 (in) "Output Preemphasis Control; LVTTL", 10 P22 (in) "Output Preemphasis Control; LVTTL", 11 GND (power) "ground", 12 VCC (power) "Power Supply 3.3 V +/-5%", 13 2Z (out) "Switch Side Differential Outputs. VML", 14 2Y (out) "Switch Side Differential Outputs. VML", 15 GND (power) "ground", 16 1Z (out) "Switch Side Differential Outputs. VML", 17 1Y (out) "Switch Side Differential Outputs. VML", 18 S2 (in) "Switching Selection; LVTTL", 19 VCC (power) "Power Supply 3.3 V +/-5%", 20 GND (power) "ground", 21 P12 (in) "Output Preemphasis Control; LVTTL", 22 P11 (in) "Output Preemphasis Control; LVTTL", 23 EQ (in) "EQ=1(default) is for the 5 dB setting; EQ=0 is for the 12 dB setting", 24 1~{DE} (in) "Data Enable; Active Low; LVTTL;When not enabled the output is in 3-STATE mode for power savings", 25 EP (power) "The ground center pad of the package must be connected to  Thermal Pad Thermal Pad  GND plane with thermal vias."

## SN65LVCP402RGET
designator U?
2 x 2 Gigabit Crosspoint Switch, 2 TX / 2 RX, 3.3V, -40 to 85 degC, 24-Pin VQFN (RGE), Green (RoHS & no Sb/Br); PartNumber: SN65LVCP402RGET; Manufacturer: Texas Instruments; ICC(Max)(mA): 110; IN SigCon: EQ; OUT SigCon: Pre-E; ESD HBM(kV): 3; DatasheetVersion: SLLS699A; PackageVersion: revG, Jul-2011; PackageReference: RGE24-2450X2450TP; PackageDescription: 24-Pin Plastic Quad Flatpack No-Lead, 4 x 4 mm Body, 0.5 mm Pitch; Mounting Technology: Surface Mount; Eco-Plan: Green (RoHS & no Sb/Br); Function: Crosspoint; Code_JEDEC: MO-220; ComponentLink1Description: Datasheet; ComponentLink1URL: http://www.ti.com/general/docs/lit/getliterature.tsp?genericPartNumber=SN65LVCP402&fileType=pdf; ComponentLink2Description: Package Specification; ComponentLink2URL: http://www.ti.com/litv/pdf/mpqf124f
footprint RGE24-2450X2450TP (QFN, 24-Leads, Body 4x4mm, Pitch 0.5mm, Thermal Pad 2.45x2.45mm, TI Recommended)
pins: 1 S1 (in) "Switching Selection; LVTTL", 2 1A (in) "Line Side Differential Inputs CML compatible", 3 1B (in) "Line Side Differential Inputs CML compatible", 4 VBB (power) "Receiver input biasing voltage.For ac coupling, VBB should be left floating for optimal bias value. For dc coupling, VBB can driven to change the common mode. [see datasheet]", 5 2A (in) "Line Side Differential Inputs CML compatible", 6 2B (in) "Line Side Differential Inputs CML compatible", 7 2~{DE} (in) "Data Enable; Active Low; LVTTL;When not enabled the output is in 3-STATE mode for power savings", 8 VCC (power) "Power Supply 3.3 V +/-5%", 9 P21 (in) "Output Preemphasis Control; LVTTL", 10 P22 (in) "Output Preemphasis Control; LVTTL", 11 GND (power) "ground", 12 VCC (power) "Power Supply 3.3 V +/-5%", 13 2Z (out) "Switch Side Differential Outputs. VML", 14 2Y (out) "Switch Side Differential Outputs. VML", 15 GND (power) "ground", 16 1Z (out) "Switch Side Differential Outputs. VML", 17 1Y (out) "Switch Side Differential Outputs. VML", 18 S2 (in) "Switching Selection; LVTTL", 19 VCC (power) "Power Supply 3.3 V +/-5%", 20 GND (power) "ground", 21 P12 (in) "Output Preemphasis Control; LVTTL", 22 P11 (in) "Output Preemphasis Control; LVTTL", 23 EQ (in) "EQ=1(default) is for the 5 dB setting; EQ=0 is for the 12 dB setting", 24 1~{DE} (in) "Data Enable; Active Low; LVTTL;When not enabled the output is in 3-STATE mode for power savings", 25 EP (power) "The ground center pad of the package must be connected to  Thermal Pad Thermal Pad  GND plane with thermal vias."